# EAGLE library part AM26LV31E (library TheMaker_Logic_v5)
QUADRUPLE DIFFERENTIAL LINE DRIVER
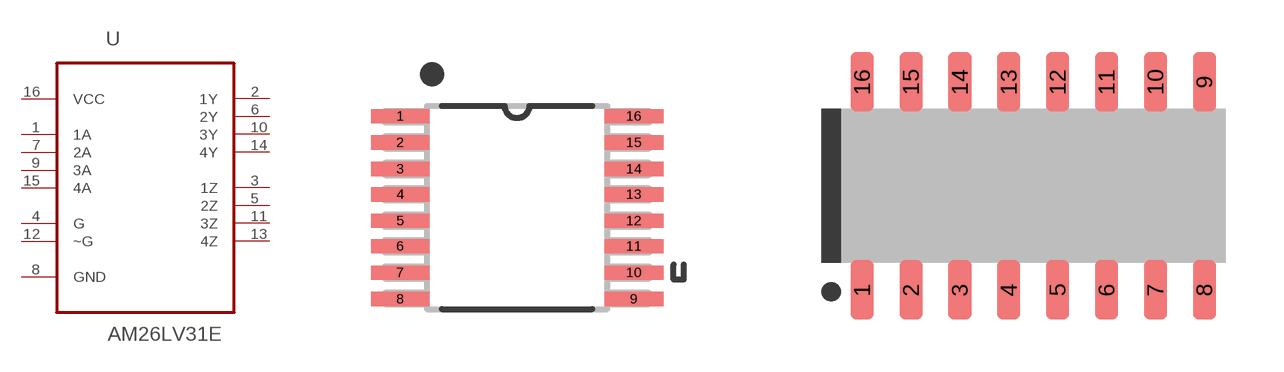
[diagram p4: symbol with the pads of SOP65P640X120-16N; footprints SOP65P640X120-16N, SO16]

Designator prefix U

## AM26LV31EIPWR (PACKAGE: TSSOP16)  [SOP65P640X120-16N]
1  1A  in
2  1Y  out
3  1Z  out
4  G  in
5  2Z  out
6  2Y  out
7  2A  in
8  GND  pas
9  3A  in
10  3Y  out
11  3Z  out
12  ~G  in
13  4Z  out
14  4Y  out
15  4A  in
16  VCC  pwr

## AM26LV31EIDR  [SO16]
Pads as for SOP65P640X120-16N

## Footprint SOP65P640X120-16N (pad centres in mm)
smd 1.473 x 0.356: 1 -2.921,2.286; 2 -2.921,1.626; 3 -2.921,0.965; 4 -2.921,0.33; 5 -2.921,-0.33; 6 -2.921,-0.965; 7 -2.921,-1.626; 8 -2.921,-2.286; 9 2.921,-2.286; 10 2.921,-1.626; 11 2.921,-0.965; 12 2.921,-0.33; 13 2.921,0.33; 14 2.921,0.965; 15 2.921,1.626; 16 2.921,2.286

## Footprint SO16 (pad centres in mm)
SO16
smd 0.6 x 1.55: 1 -4.445,-2.7; 2 -3.175,-2.7; 3 -1.905,-2.7; 4 -0.635,-2.7; 5 0.635,-2.7; 6 1.905,-2.7; 7 3.175,-2.7; 8 4.445,-2.7; 9 4.445,2.7; 10 3.175,2.7; 11 1.905,2.7; 12 0.635,2.7; 13 -0.635,2.7; 14 -1.905,2.7; 15 -3.175,2.7; 16 -4.445,2.7